# Altium schematic symbol library MBR5U100-TP.SchLib: 1 symbol
Pins are listed as number, name and electrical type; pins without a type are passive.

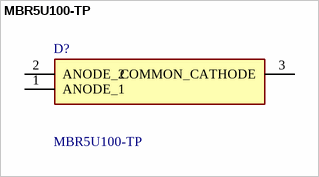
[diagram p0: symbol MBR5U100-TP]

## MBR5U100-TP
designator D?
Diode Schottky 100 V 5A Surface Mount TO-277; Manufacturer_Name: MCC; Geometry.Height: 1.2mm; Manufacturer_Part_Number: MBR5U100-TP; Mouser Part Number: *; Mouser Price/Stock: *; Arrow Part Number: *; Arrow Price/Stock: *; Mouser Testing Part Number: *; Mouser Testing Price/Stock: *; Datasheet Link: https://www.mccsemi.com/pdf/Products/MBR5U100(TO-277).pdf
footprint MBR5U100TP
pins: 1 ANODE_1, 2 ANODE_2, 3 COMMON_CATHODE